# Altium footprint library Wireless.PcbLib: 1 footprints
Each footprint in its own frame and in the unit in brackets; x right, y up, seen from the top. Pads: shape width x height; smd on the part's side, far side on the other; paste and mask are expansions set on the pad; w line width, h text height; cw(c..) or ccw(c..) is an arc to the next point about the centre after c.
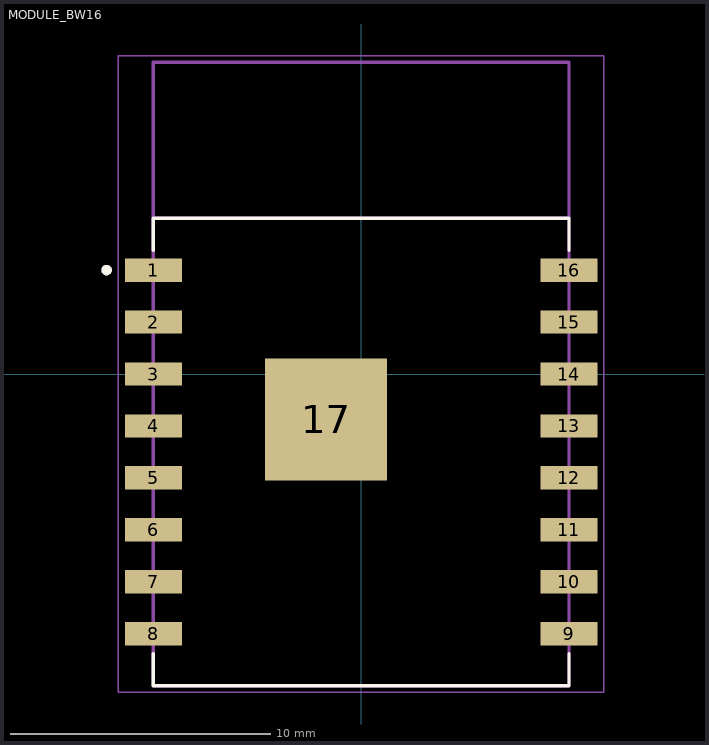
[diagram p0: the footprint, top view; thin cyan lines are the x and y axes]

## MODULE_BW16 [mm]
pads (17):
  rect 2.2x0.9 smd: 1(-8,4) 2(-8,2) 3(-8,0) 4(-8,-2) 5(-8,-4) 6(-8,-6) 7(-8,-8) 8(-8,-10) 9(8,-10) 10(8,-8) 11(8,-6) 12(8,-4) 13(8,-2) 14(8,0) 15(8,2) 16(8,4)
  rect 4.7x4.7 smd paste-3: 17(-1.35,-1.75)
Top Overlay:
  circle w0.2: c-9.8,4 r0.1
  lines w0.127: -8,-10.77 -8,-12 8,-12 8,-10.77 ; -8,4.77 -8,6 8,6 8,4.77
Top Paste:
  region: 0.57,-1.32 -0.92,-1.32 -0.92,0.17 0.57,0.17
  region: -1.78,-1.32 -3.27,-1.32 -3.27,0.17 -1.78,0.17
  region: -1.78,-3.67 -3.27,-3.67 -3.27,-2.18 -1.78,-2.18
  region: 0.57,-3.67 -0.92,-3.67 -0.92,-2.18 0.57,-2.18
Mechanical 13:
  circle w0.2: c-9.8,4 r0.1
  lines w0.127: -8,6 -8,12 8,12 8,6 ; -8,6 -8,-12 8,-12 8,6 ; -8,6 8,6
Mechanical 15:
  lines w0.05: -9.35,-12.25 -9.35,12.25 9.35,12.25 9.35,-12.25 -9.35,-12.25
3D body "BW16 v6.step": height 3.03, standoff -0.03, extent -8,-12 8,12